# Altium schematic symbol library LNA.SchLib: 2 symbols
Pins are listed as number, name and electrical type; pins without a type are passive.

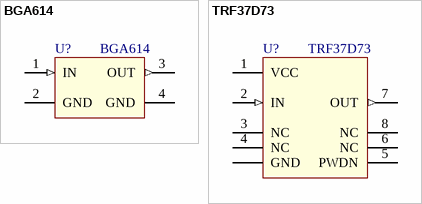
[diagram p0: symbols BGA614 to TRF37D73]

## BGA614
designator U?
Silicon Germanium Broadband MMIC Amplifier; Value: BGA614
footprint SOT-343 (Footprint not found)
pins: 1 IN (in) "FM RF inputs. FMI should be connected to the antenna trace.", 2 GND (power) "AM/SW/LW RF input.", 3 OUT (out), 4 GND (power)

## TRF37D73
designator U?
1-6000 MHz RF Gain Block; Value: TRF37D73
footprint WSON-8-2X2 (SON, 8-Leads, Body 2.00x2.00mm, Pitch 0.50mm, Thermal Pad 1.60x0.45mm, IPC Medium Density)
pins: 1 VCC (power) "DC Bias", 2 IN (in) "RF input. Connect to an RF source through a DC-blocking capacitor. Internally matched to 50 Ω.", 3 NC "No electrical connection. Connect pad to GND for board level reliability integrity", 4 NC "No electrical connection. Connect pad to GND for board level reliability integrity", 5 PWDN (power) "When high the device is in power down state", 6 NC "No electrical connection. Connect pad to GND for board level reliability integrity", 7 OUT (out), 8 NC "No electrical connection. Connect pad to GND for board level reliability integrity", PAD GND (power) "RF and DC GND"